# EAGLE library part QWIIC_CONNECTOR_GND (library tecsmith_custom_nick_nacks)
SparkFun I2C Standard Qwiic Connector An SMD 1mm pitch JST connector makes it easy and quick (get it? Qwiic?) to connect I2C devices to each other. The Qwiic system <http://www.sparkfun.com/qwiic> enables fast and solderless connection between popular platforms and various sensors and actuators. We carry 200mm <https://www.sparkfun.com/products/14204>, 100mm <https://www.sparkfun.com/products/14205>, 50mm <https://www.sparkfun.com/products/14206>, and breadboard friendly <https://www.sparkfun.com/products/14207> Qwiic cables. We also offer 10 pcs strips <https://www.sparkfun.com/products/14323> the SMD connectors.
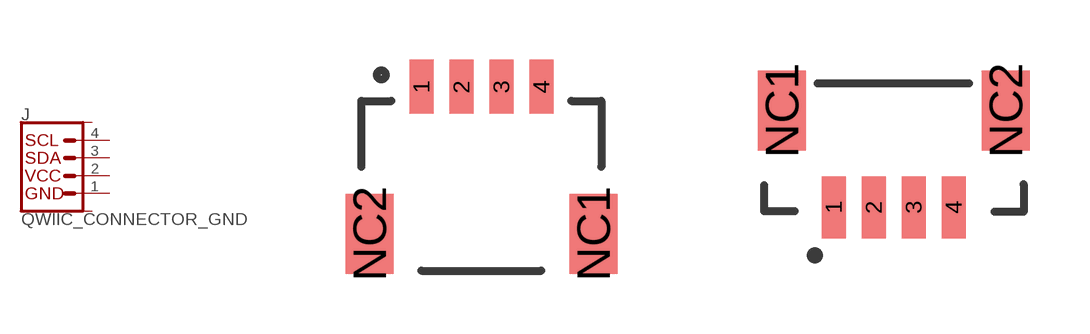
[diagram p8: symbol with the pads of JST04_1MM_RA; footprints JST04_1MM_RA, JST04_1MM_VERT]

Designator prefix J

## QWIIC_CONNECTOR_GNDJS-1MM (PROD_ID: CONN-13694; VALUE: QWIIC_RIGHT_ANGLE)  [JST04_1MM_RA]
1  1  pwr
2  2  pwr
3  3  pas
4  4  pas
NC1  NC1  nc
NC2  NC2  nc

## QWIIC_CONNECTOR_GND (PROD_ID: CONN-14483; VALUE: Vertical Qwiic Connector)  [JST04_1MM_VERT]
Pads as for JST04_1MM_RA

## Footprint JST04_1MM_RA (pad centres in mm)
SMD- 4 Pin Right Angle Specifications: Pin count:4 Pin pitch:0.1" Example device(s): CONN_04
smd 0.6 x 1.35: 1 -1.5,0; 2 -0.5,0; 3 0.5,0; 4 1.5,0
smd 1.2 x 2: NC1 2.8,-3.675; NC2 -2.8,-3.675

## Footprint JST04_1MM_VERT (pad centres in mm)
Vertical Qwiic Connector Physical and Electrical Charactersistics Voltage Rating: 50V Current Rating 1.0A Contact Resistance: 20 milliohms ROHS Compliant SMD Pitch: 1mm Small pad size: .6mm x 1.55mm Large pad size: 1.2mm x 2.0mm
smd 0.6 x 1.55: 1 -1.478,0.775; 2 -0.478,0.775; 3 0.522,0.775; 4 1.522,0.775
smd 1.2 x 2: NC1 -2.778,3.2; NC2 2.822,3.2